# EAGLE library part PI_CONN (library KwanSystems)
Raspberry Pi A/B 26-pin connector. Not valid for Pi 2/3, which have 40 pin connectors.
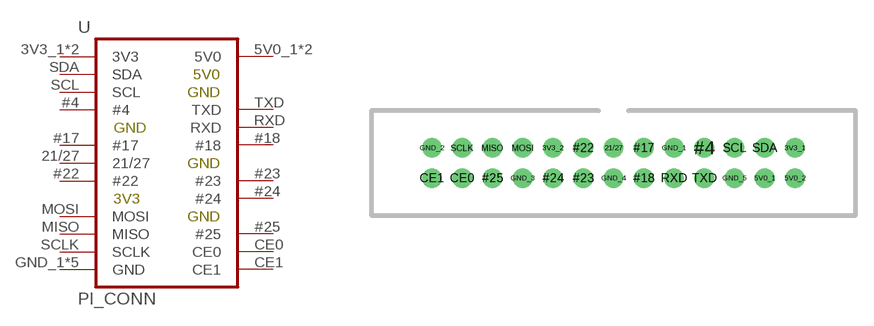
[diagram p51: symbol with the pads of PI_CONN; footprint PI_CONN]

Designator prefix -

## PI_CONN  [PI_CONN]
3V3_1  3V3  pas
3V3_2  3V3  pas
5V0_1  5V0  pas
5V0_2  5V0  pas
21/27  21/27  pas
#4  #4  pas
#17  #17  pas
#18  #18  pas
#22  #22  pas
#23  #23  pas
#24  #24  pas
#25  #25  pas
CE0  CE0  pas
CE1  CE1  pas
GND_1  GND  pas
GND_2  GND  pas
GND_3  GND  pas
GND_4  GND  pas
GND_5  GND  pas
MISO  MISO  pas
MOSI  MOSI  pas
RXD  RXD  pas
SCL  SCL  pas
SCLK  SCLK  pas
SDA  SDA  pas
TXD  TXD  pas

## Footprint PI_CONN (pad centres in mm)
drill 1.016 pad 1.651: 3V3_1 15.24,1.27; 3V3_2 -5.08,1.27; 5V0_1 12.7,-1.27; 5V0_2 15.24,-1.27; 21/27 0,1.27; #4 7.62,1.27; #17 2.54,1.27; #18 2.54,-1.27; #22 -2.54,1.27; #23 -2.54,-1.27; #24 -5.08,-1.27; #25 -10.16,-1.27; CE0 -12.7,-1.27; CE1 -15.24,-1.27; GND_1 5.08,1.27; GND_2 -15.24,1.27; GND_3 -7.62,-1.27; GND_4 0,-1.27; GND_5 10.16,-1.27; MISO -10.16,1.27; MOSI -7.62,1.27; RXD 5.08,-1.27; SCL 10.16,1.27; SCLK -12.7,1.27; SDA 12.7,1.27; TXD 7.62,-1.27